# EAGLE library part BB_XQFP_050_080 (library dp_devices)
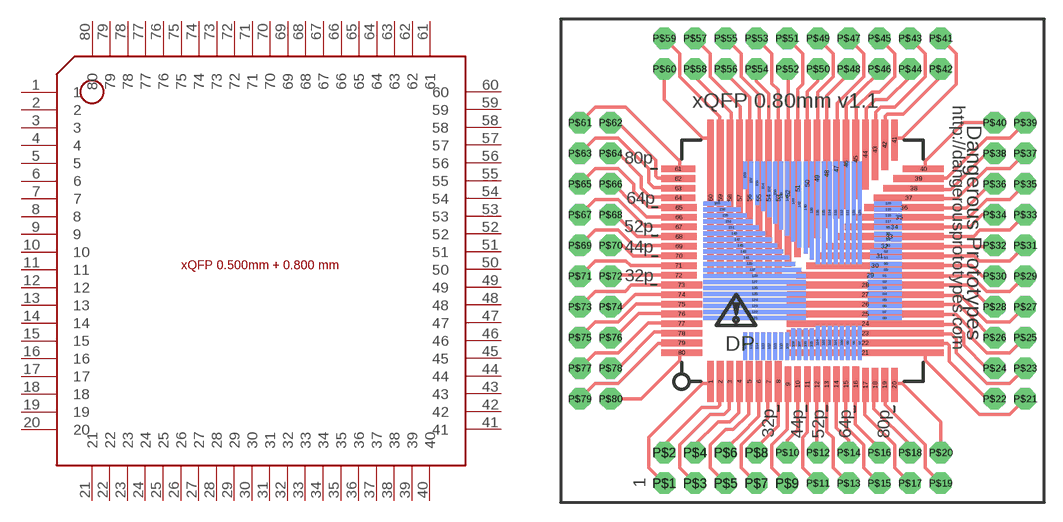
[diagram p127: symbol with the pads of BB_QFP_080_050_BREAKOUT_BOARD; footprint BB_QFP_080_050_BREAKOUT_BOARD]

Designator prefix IC

## BB_XQFP_050_080  [BB_QFP_080_050_BREAKOUT_BOARD]
1  1
2  2
3  3
4  4
5  5
6  6
7  7
8  8
9  9
10  10
11  11
12  12
13  13
14  14
15  15
16  16
17  17
18  18
19  19
20  20
21  21
22  22
23  23
24  24
25  25
26  26
27  27
28  28
29  29
30  30
31  31
32  32
33  33
34  34
35  35
36  36
37  37
38  38
39  39
40  40
41  41
42  42
43  43
44  44
45  45
46  46
47  47
48  48
49  49
50  50
51  51
52  52
53  53
54  54
55  55
56  56
57  57
58  58
59  59
60  60
61  61
62  62
63  63
64  64
65  65
66  66
67  67
68  68
69  69
70  70
71  71
72  72
73  73
74  74
75  75
76  76
77  77
78  78
79  79
80  80

## Footprint BB_QFP_080_050_BREAKOUT_BOARD (pad centres in mm)
QFP 0.5 mm pitch 32p (5mm sq) 48p (7mm sq) 64p (10mm sq) 80p (12mm sq) QFP 0.8 mm pitch 32p (7mm sq) 44p (10mm sq) 64p (14mm sq) 80p (16.5mm sq) CC-BY-SA
smd 0.55 x 3.405: 1 -7.6,-9.998; 2 -6.8,-9.998; 3 -6,-9.998; 4 -5.2,-9.998; 5 -4.4,-9.998; 6 -3.6,-9.998; 7 -2.8,-9.998; 8 -2,-9.998; 41 7.6,9.997
smd 0.55 x 2.95: 9 -1.2,-10.225; 10 -0.4,-10.225; 11 0.4,-10.225; 12 1.2,-10.225; 13 2,-10.225; 14 2.8,-10.225; 15 3.6,-10.225; 16 4.4,-10.225
smd 0.55 x 2.85: 17 5.2,-10.275; 18 6,-10.275; 19 6.8,-10.275; 20 7.6,-10.275
smd 13.005 x 0.55: 21 5.197,-7.6; 22 5.197,-6.8; 23 5.197,-6; 24 5.197,-5.2; 25 5.197,-4.4; 26 5.197,-3.6; 27 5.197,-2.8; 28 5.197,-2
smd 12.205 x 0.55: 29 5.597,-1.2
smd 11.405 x 0.55: 30 5.997,-0.4
smd 10.605 x 0.55: 31 6.397,0.4
smd 9.805 x 0.55: 32 6.797,1.2
smd 9.005 x 0.55: 33 7.197,2
smd 8.205 x 0.55: 34 7.597,2.8
smd 7.405 x 0.55: 35 7.997,3.6
smd 6.605 x 0.55: 36 8.397,4.4
smd 5.805 x 0.55: 37 8.797,5.2
smd 5.005 x 0.55: 38 9.197,6
smd 4.205 x 0.55: 39 9.597,6.8
smd 3.405 x 0.55: 40 9.997,7.6; 73 -9.998,-2; 74 -9.998,-2.8; 75 -9.998,-3.6; 76 -9.998,-4.4; 77 -9.998,-5.2; 78 -9.998,-6; 79 -9.998,-6.8; 80 -9.998,-7.6
smd 0.55 x 4.205: 42 6.8,9.597
smd 0.55 x 5.005: 43 6,9.197
smd 0.55 x 5.805: 44 5.2,8.797
smd 0.55 x 6.605: 45 4.4,8.397
smd 0.55 x 7.405: 46 3.6,7.997
smd 0.55 x 8.205: 47 2.8,7.597
smd 0.55 x 9.005: 48 2,7.197
smd 0.55 x 9.805: 49 1.2,6.797
smd 0.55 x 10.605: 50 0.4,6.397
smd 0.55 x 11.405: 51 -0.4,5.997
smd 0.55 x 12.205: 52 -1.2,5.597
smd 0.55 x 13.005: 53 -2,5.198; 54 -2.8,5.198; 55 -3.6,5.198; 56 -4.4,5.198; 57 -5.2,5.198; 58 -6,5.198; 59 -6.8,5.198; 60 -7.6,5.198
smd 2.85 x 0.55: 61 -10.275,7.6; 62 -10.275,6.8; 63 -10.275,6; 64 -10.275,5.2
smd 2.95 x 0.55: 65 -10.225,4.4; 66 -10.225,3.6; 67 -10.225,2.8; 68 -10.225,2; 69 -10.225,1.2; 70 -10.225,0.4; 71 -10.225,-0.4; 72 -10.225,-1.2
smd 2.824 x 0.33 bottom: 81 6.788,-1.25; 82 6.788,-1.75; 83 6.788,-2.25; 84 6.788,-2.75; 85 6.788,-3.25; 86 6.788,-3.75; 87 6.788,-4.25; 88 6.788,-4.75
smd 2.6 x 0.33 bottom: 89 6.9,-0.75; 90 6.9,-0.25; 91 6.9,0.25; 92 6.9,0.75
smd 2.25 x 0.33 bottom: 93 7.075,1.25; 94 7.075,1.75; 95 7.075,2.75; 96 7.075,2.25; 117 7.075,3.25; 118 7.075,3.75; 119 7.075,4.25; 120 7.075,4.75; 160 -7.075,4.75
smd 0.33 x 2.824 bottom: 97 4.75,-6.788; 98 4.25,-6.788; 99 3.75,-6.788; 100 3.25,-6.788; 101 2.75,-6.788; 102 2.25,-6.788; 103 1.75,-6.788; 104 1.25,-6.788
smd 0.33 x 2.6 bottom: 105 0.75,-6.9; 106 0.25,-6.9; 107 -0.25,-6.9; 108 -0.75,-6.9
smd 0.33 x 2.25 bottom: 109 -1.25,-7.075; 110 -1.75,-7.075; 111 -2.25,-7.075; 112 -2.75,-7.075; 113 -3.25,-7.075; 114 -3.75,-7.075; 115 -4.25,-7.075; 116 -4.75,-7.075; 159 -4.75,7.075
smd 8.47 x 0.33 bottom: 121 -3.965,-4.75; 122 -3.965,-4.25; 123 -3.965,-3.75; 124 -3.965,-3.25; 125 -3.965,-2.75; 126 -3.965,-2.25; 127 -3.965,-1.75; 128 -3.965,-1.25
smd 0.33 x 8.47 bottom: 129 4.75,3.965; 130 4.25,3.965; 131 3.75,3.965; 132 3.25,3.965; 133 2.75,3.965; 134 2.25,3.965; 135 1.75,3.965; 136 1.25,3.965
smd 8.1 x 0.33 bottom: 137 -4.15,-0.75
smd 0.33 x 8.1 bottom: 138 0.75,4.15
smd 7.6 x 0.33 bottom: 139 -4.4,-0.25
smd 0.33 x 7.6 bottom: 140 0.25,4.4
smd 7.1 x 0.33 bottom: 141 -4.65,0.25
smd 0.33 x 7.1 bottom: 142 -0.25,4.65
smd 6.6 x 0.33 bottom: 143 -4.9,0.75
smd 0.33 x 6.6 bottom: 144 -0.75,4.9
smd 6.1 x 0.33 bottom: 145 -5.15,1.25
smd 0.33 x 6.1 bottom: 146 -1.25,5.15
smd 5.6 x 0.33 bottom: 147 -5.4,1.75
smd 0.33 x 5.6 bottom: 148 -1.75,5.4
smd 5.1 x 0.33 bottom: 149 -5.65,2.25
smd 0.33 x 5.1 bottom: 150 -2.25,5.65
smd 4.6 x 0.33 bottom: 151 -5.9,2.75
smd 0.33 x 4.6 bottom: 152 -2.75,5.9
smd 4.1 x 0.33 bottom: 153 -6.15,3.25
smd 0.33 x 4.1 bottom: 154 -3.25,6.15
smd 3.6 x 0.33 bottom: 155 -6.4,3.75
smd 0.33 x 3.6 bottom: 156 -3.75,6.4
smd 0.33 x 3.1 bottom: 157 -4.25,6.65
smd 3.1 x 0.33 bottom: 158 -6.65,4.25
drill 1.016 pad 1.778 octagon: P$1 -11.43,-18.415; P$2 -11.43,-15.875; P$3 -8.89,-18.415; P$4 -8.89,-15.875; P$5 -6.35,-18.415; P$6 -6.35,-15.875; P$7 -3.81,-18.415; P$8 -3.81,-15.875; P$9 -1.27,-18.415; P$10 -1.27,-15.875; P$11 1.27,-18.415; P$12 1.27,-15.875; P$13 3.81,-18.415; P$14 3.81,-15.875; P$15 6.35,-18.415; P$16 6.35,-15.875; P$17 8.89,-18.415; P$18 8.89,-15.875; P$19 11.43,-18.415; P$20 11.43,-15.875; P$21 18.415,-11.43; P$22 15.875,-11.43; P$23 18.415,-8.89; P$24 15.875,-8.89; P$25 18.415,-6.35; P$26 15.875,-6.35; P$27 18.415,-3.81; P$28 15.875,-3.81; P$29 18.415,-1.27; P$30 15.875,-1.27; P$31 18.415,1.27; P$32 15.875,1.27; P$33 18.415,3.81; P$34 15.875,3.81; P$35 18.415,6.35; P$36 15.875,6.35; P$37 18.415,8.89; P$38 15.875,8.89; P$39 18.415,11.43; P$40 15.875,11.43; P$41 11.43,18.415; P$42 11.43,15.875; P$43 8.89,18.415; P$44 8.89,15.875; P$45 6.35,18.415; P$46 6.35,15.875; P$47 3.81,18.415; P$48 3.81,15.875; P$49 1.27,18.415; P$50 1.27,15.875; P$51 -1.27,18.415; P$52 -1.27,15.875; P$53 -3.81,18.415; P$54 -3.81,15.875; P$55 -6.35,18.415; P$56 -6.35,15.875; P$57 -8.89,18.415; P$58 -8.89,15.875; P$59 -11.43,18.415; P$60 -11.43,15.875; P$61 -18.415,11.43; P$62 -15.875,11.43; P$63 -18.415,8.89; P$64 -15.875,8.89; P$65 -18.415,6.35; P$66 -15.875,6.35; P$67 -18.415,3.81; P$68 -15.875,3.81; P$69 -18.415,1.27; P$70 -15.875,1.27; P$71 -18.415,-1.27; P$72 -15.875,-1.27; P$73 -18.415,-3.81; P$74 -15.875,-3.81; P$75 -18.415,-6.35; P$76 -15.875,-6.35; P$77 -18.415,-8.89; P$78 -15.875,-8.89; P$79 -18.415,-11.43; P$80 -15.875,-11.43